# Altium schematic symbol library BQ771801DPJR.SchLib: 1 symbol
Pins are listed as number, name and electrical type; pins without a type are passive.

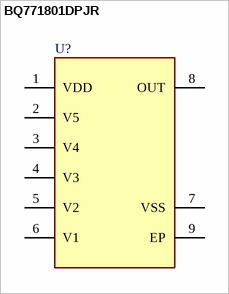
[diagram p0: symbol BQ771801DPJR]

## BQ771801DPJR
designator U?  (value not drawn)
Family 2-5S Overvoltage Protector with Internal Delay Timer; Manufacturer_Name: Texas Instruments; Geometry.Height: 0.8mm; Mouser Part Number: 595-BQ771801DPJR; Mouser Price/Stock: https://www.mouser.co.uk/ProductDetail/Texas-Instruments/BQ771801DPJR?qs=uuvYgmlZVOt9Z%252B15MRHgjQ%3D%3D; Manufacturer_Part_Number: BQ771801DPJR; Datasheet Link: http://www.ti.com/lit/gpn/bq7718
footprint SON65P400X300X80-9N-D
pins: 1 VDD, 2 V5, 3 V4, 4 V3, 5 V2, 6 V1, 7 VSS, 8 OUT, 9 EP